# Altium footprint library BLEFloor.PcbLib: 8 footprints
Each footprint in its own frame and in the unit in brackets; x right, y up, seen from the top. Pads: shape width x height; smd on the part's side, far side on the other; paste and mask are expansions set on the pad; w line width, h text height; cw(c..) or ccw(c..) is an arc to the next point about the centre after c.
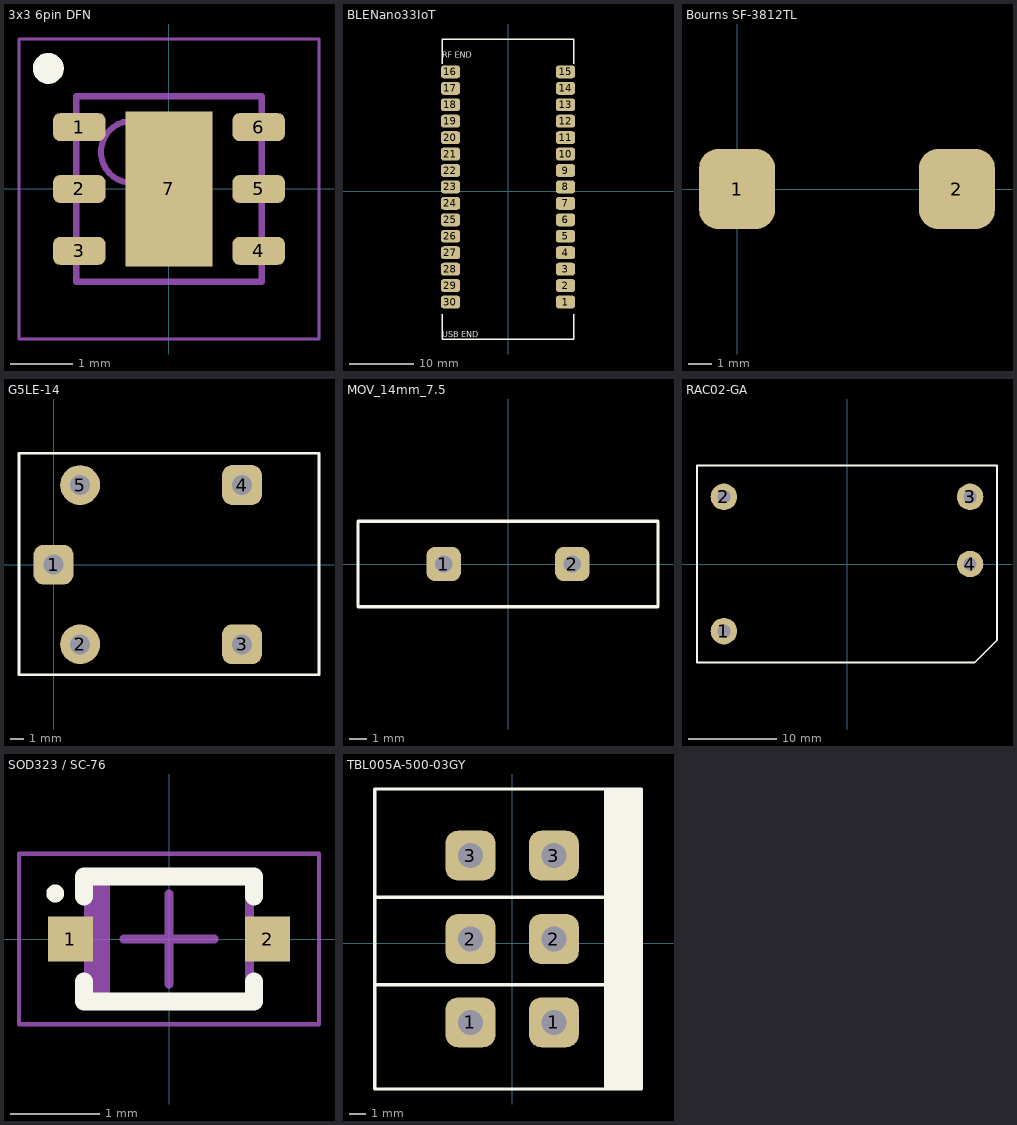
[diagram p0: the footprints below, top view; thin cyan lines are the x and y axes]

## 3x3 6pin DFN [mm]
height 0.8
pads (7):
  rrect50% 0.85x0.45 smd: 1(-1.45,1) 2(-1.45,0) 3(-1.45,-1) 4(1.45,-1) 5(1.45,0) 6(1.45,1)
  rect 1.4x2.5 smd: 7(0,0)
Top Overlay:
  circle w0.25: c-1.95,1.95 r0.125
Mechanical 13:
  circle w0.1: c-0.6,0.6 r0.5
  lines w0.1: -1.5,-1.5 1.5,-1.5 1.5,1.5 -1.5,1.5 -1.5,-1.5
Mechanical 15:
  lines w0.05: -2.425,-2.425 2.425,-2.425 2.425,2.425 -2.425,2.425 -2.425,-2.425
  lines w0.1: -0.5,0 0.5,0 ; 0,-0.5 0,0.5
3D body "3x3 6pin DFN.step": height 0.8, standoff 0, extent -1.55,-1.5 1.55,1.5

## BLENano33IoT [mm]
pads (30):
  rrect50% 3x2 smd: 1(8.89,-17.145) 2(8.89,-14.605) 3(8.89,-12.065) 4(8.89,-9.525) 5(8.89,-6.985) 6(8.89,-4.445) 7(8.89,-1.905) 8(8.89,0.635) 9(8.89,3.175) 10(8.89,5.715) 11(8.89,8.255) 12(8.89,10.795) 13(8.89,13.335) 14(8.89,15.875) 15(8.89,18.415) 16(-8.89,18.415) 17(-8.89,15.875) 18(-8.89,13.335) 19(-8.89,10.795) 20(-8.89,8.255) 21(-8.89,5.715) 22(-8.89,3.175) 23(-8.89,0.635) 24(-8.89,-1.905) 25(-8.89,-4.445) 26(-8.89,-6.985) 27(-8.89,-9.525) 28(-8.89,-12.065) 29(-8.89,-14.605) 30(-8.89,-17.145)
Top Overlay:
  lines w0.2: -10.16,-19.05 -10.16,-22.86 10.16,-22.86 10.16,-19.05 ; -10.16,19.685 -10.16,23.495 10.16,23.495 10.16,19.685
  text "USB END" at -10.16,-22.86 h1.52
  text "RF END" at -10.16,20.32 h1.52
3D body "Arduino Nano 33 IoT.stp": height 5.56, standoff 0.01, extent -9.017,-22.3 8.763,23.016

## Bourns SF-3812TL [mm]
pads (2):
  rrect50% 3.25x3.43 smd: 1(0,0) 2(9.398,0)
3D body: height 3.1, standoff 0, extent -0.762,-1.778 0.762,1.778
3D body: height 3.1, standoff 0, extent 8.636,-1.778 10.16,1.778
3D body: height 2.7, standoff 0.4, extent 0.762,-1.27 8.636,1.27

## G5LE-14 [mm] "Omron Power Relay"
pads (5):
  rrect50% 3x3 hole 1.5 unplated: 1(0,0) 3(14.2,-6) 4(14.2,6)
  round 3 hole 1.5 unplated: 2(2,-6) 5(2,6)
Top Overlay:
  lines w0.2: -2.6,-8.3 -2.6,8.4 20,8.4 20,-8.3 -2.6,-8.3
3D body "G5LE_14.step": height 19, standoff -3.5, extent -2.55,-8.2 19.95,8.3

## MOV_14mm_7.5 [mm]
pads (2):
  rrect50% 2x2 hole 1 unplated: 1(-3.75,0) 2(3.75,0)
Top Overlay:
  lines w0.2: -8.75,-2.5 8.75,-2.5 8.75,2.5 -8.75,2.5 -8.75,-2.5
3D body "mov-14d391k.stp": height 21.25, standoff -18.75, extent -8.493,-3.857 8.625,3.933

## RAC02-GA [mm] "The RAC02-GA series are low cost AC/DC power supplies, ideal for PCB mounted, compact,  board level industrial applications."
pads (4):
  round 3 hole 1.5 unplated: 1(-13.97,-7.62) 2(-13.97,7.62) 3(13.97,7.62) 4(13.97,0)
Top Overlay:
  lines w0.2: -17.018,-11.176 14.478,-11.176 17.018,-8.636 17.018,11.176 -17.018,11.176 -17.018,-11.176
3D body "RAC02-GA.step": height 19.1, standoff -3.6, extent -16.85,-11.1 16.85,11.1

## SOD323 / SC-76 [mm] "Molded Diode, 2-Leads, Body 1.70x1.25mm, IPC Medium Density"
height 1.1
pads (2):
  rect 0.5x0.5 smd: 1(-1.1,0) 2(1.1,0)
Top Overlay:
  circle w0.1: c-1.27,0.508 r0.05
  lines w0.2: -0.95,-0.475 -0.95,-0.7 0.95,-0.7 0.95,-0.475 ; -0.95,0.475 -0.95,0.7 0.95,0.7 0.95,0.475
Mechanical 13:
  rectangle: -0.9,-0.675 -0.658,0.675
  lines w0.1: -0.9,-0.675 -0.9,0.675 0.9,0.675 0.9,-0.675 -0.9,-0.675
Mechanical 15:
  lines w0.05: -1.675,-0.95 -1.675,0.95 1.675,0.95 1.675,-0.95 -1.675,-0.95
  lines w0.1: -0.5,0 0.5,0 ; 0,-0.5 0,0.5
3D body: height 1.1, standoff 0, extent -0.9,-0.675 0.9,0.675

## TBL005A-500-03GY [mm] "45' Terminal Block"
pads (6):
  rrect50% 3x3 hole 1.5 unplated: 1(-2.5,-4.75) 1(2.5,-4.75) 2(-2.5,0.25) 2(2.5,0.25) 3(-2.5,5.25) 3(2.5,5.25)
Top Overlay:
  rectangle: 5.5,-8.75 7.75,9.25
  lines w0.2: -8.25,-2.5 7.75,-2.5 ; -8.25,2.75 7.75,2.75 ; -8.25,-8.75 7.75,-8.75 7.75,9.25 -8.25,9.25 -8.25,-8.75
3D body "CUI_DEVICES_TBL005A-500-03GY-2WT.step": height 16.37, standoff -4, extent -8.251,-8.75 7.751,9.2